# Altium footprint library VREG_NCP115CMX120TCG.PcbLib: 1 footprints
Each footprint in its own frame and in the unit in brackets; x right, y up, seen from the top. Pads: shape width x height; smd on the part's side, far side on the other; paste and mask are expansions set on the pad; w line width, h text height; cw(c..) or ccw(c..) is an arc to the next point about the centre after c.
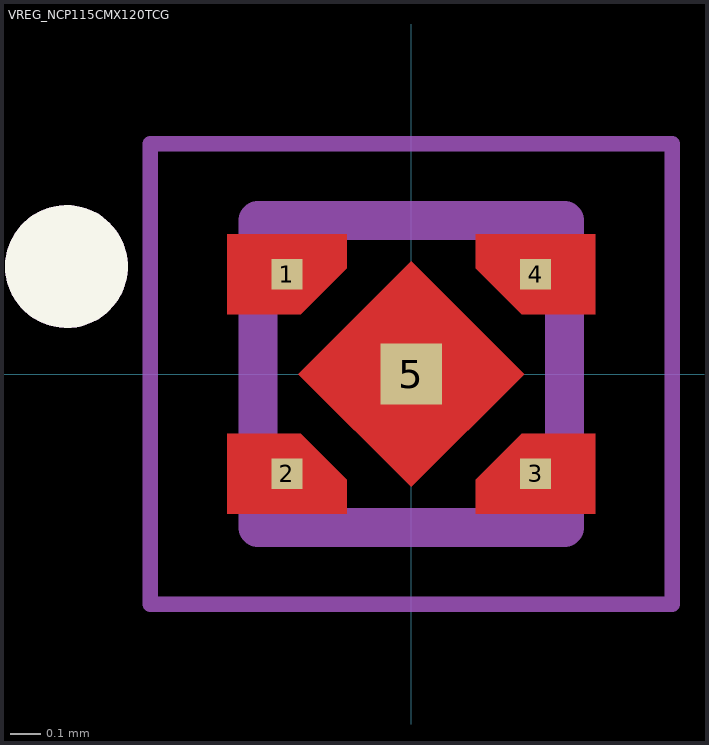
[diagram p0: the footprint, top view; thin cyan lines are the x and y axes]

## VREG_NCP115CMX120TCG [mm]
pads (5):
  rect 0.1x0.1 smd paste-1 mask+0: 1(-0.405,0.325) 2(-0.405,-0.325) 3(0.405,-0.325) 4(0.405,0.325)
  rect 0.2x0.2 smd paste-1 mask+0: 5(0,0)
Top Layer:
  region: 0.368,0 0,-0.368 -0.368,0 0,0.368
  region: -0.21,0.345 -0.36,0.195 -0.6,0.195 -0.6,0.455 -0.21,0.455
  region: -0.21,-0.345 -0.21,-0.455 -0.6,-0.455 -0.6,-0.195 -0.36,-0.195
  region: 0.6,-0.455 0.21,-0.455 0.21,-0.345 0.36,-0.195 0.6,-0.195
  region: 0.6,0.195 0.36,0.195 0.21,0.345 0.21,0.455 0.6,0.455
Top Overlay:
  circle w0.2: c-1.123,0.35 r0.1
Top Paste:
  region: 0.368,0 0,-0.368 -0.368,0 0,0.368
  region: -0.21,0.345 -0.36,0.195 -0.6,0.195 -0.6,0.455 -0.21,0.455
  region: -0.21,-0.345 -0.21,-0.455 -0.6,-0.455 -0.6,-0.195 -0.36,-0.195
  region: 0.6,-0.455 0.21,-0.455 0.21,-0.345 0.36,-0.195 0.6,-0.195
  region: 0.6,0.195 0.36,0.195 0.21,0.345 0.21,0.455 0.6,0.455
Top Solder:
  region: 0.438,0 0,-0.438 -0.438,0 0,0.438
  region: -0.16,0.32 -0.335,0.145 -0.65,0.145 -0.65,0.505 -0.16,0.505
  region: -0.16,-0.32 -0.16,-0.505 -0.65,-0.505 -0.65,-0.145 -0.335,-0.145
  region: 0.65,-0.505 0.16,-0.505 0.16,-0.32 0.335,-0.145 0.65,-0.145
  region: 0.65,0.145 0.335,0.145 0.16,0.32 0.16,0.505 0.65,0.505
Mechanical 13:
  circle w0.2: c-1.123,0.35 r0.1
  lines w0.127: -0.5,-0.5 0.5,-0.5 0.5,0.5 -0.5,0.5 -0.5,-0.5
Mechanical 15:
  lines w0.05: -0.85,-0.75 -0.85,0.75 0.85,0.75 0.85,-0.75 -0.85,-0.75
3D body: height 0.8, standoff -0.8, extent 0,0 0,0
3D body "step_temp.STEP": height 0.38, standoff -0.05, extent -0.5,-0.5 0.5,0.5